# EAGLE library part LTC3899 (library kiks-ic)
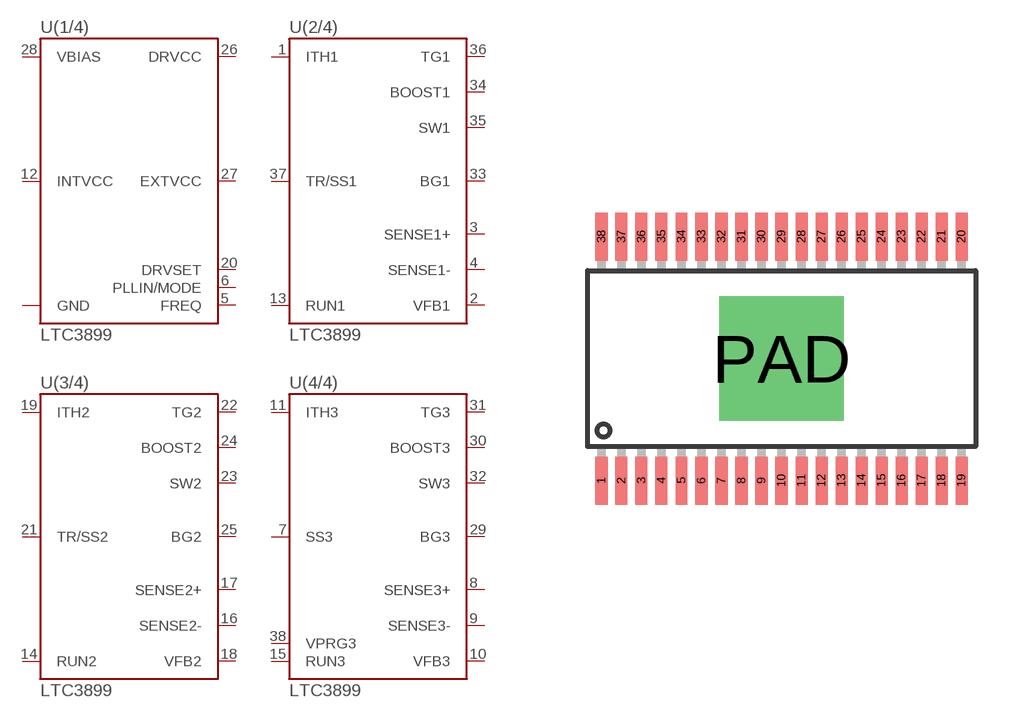
[diagram p3: symbol with the pads of TSSOP38-PAD; footprint TSSOP38-PAD]

Designator prefix U; gates (1/4)=LTC3899_1 (2/4)=LTC3899_2 (3/4)=LTC3899_3 (4/4)=LTC3899_4

## LTC3899  [TSSOP38-PAD]
1  (2/4):ITH1
2  (2/4):VFB1  in
3  (2/4):SENSE1+  in
4  (2/4):SENSE1-  in
5  (1/4):FREQ  in
6  (1/4):PLLIN/MODE  in
7  (4/4):SS3
8  (4/4):SENSE3+  in
9  (4/4):SENSE3-  in
10  (4/4):VFB3  in
11  (4/4):ITH3
12  (1/4):INTVCC  in
13  (2/4):RUN1  in
14  (3/4):RUN2  in
15  (4/4):RUN3  in
16  (3/4):SENSE2-  in
17  (3/4):SENSE2+  in
18  (3/4):VFB2  in
19  (3/4):ITH2
20  (1/4):DRVSET  in
21  (3/4):TR/SS2
22  (3/4):TG2  out
23  (3/4):SW2  in
24  (3/4):BOOST2
25  (3/4):BG2  out
26  (1/4):DRVCC  in
27  (1/4):EXTVCC  in
28  (1/4):VBIAS  in
29  (4/4):BG3  out
30  (4/4):BOOST3
31  (4/4):TG3  out
32  (4/4):SW3  in
33  (2/4):BG1  out
34  (2/4):BOOST1
35  (2/4):SW1  in
36  (2/4):TG1  out
37  (2/4):TR/SS1
38  (4/4):VPRG3  in
PAD  (1/4):GND  in

## Footprint TSSOP38-PAD (pad centres in mm)
smd 0.3 x 1.2: 1 -4.5,-3.05; 2 -4,-3.05; 3 -3.5,-3.05; 4 -3,-3.05; 5 -2.5,-3.05; 6 -2,-3.05; 7 -1.5,-3.05; 8 -1,-3.05; 9 -0.5,-3.05; 10 0,-3.05; 11 0.5,-3.05; 12 1,-3.05; 13 1.5,-3.05; 14 2,-3.05; 15 2.5,-3.05; 16 3,-3.05; 17 3.5,-3.05; 18 4,-3.05; 19 4.5,-3.05; 20 4.5,3.05; 21 4,3.05; 22 3.5,3.05; 23 3,3.05; 24 2.5,3.05; 25 2,3.05; 26 1.5,3.05; 27 1,3.05; 28 0.5,3.05; 29 0,3.05; 30 -0.5,3.05; 31 -1,3.05; 32 -1.5,3.05; 33 -2,3.05; 34 -2.5,3.05; 35 -3,3.05; 36 -3.5,3.05; 37 -4,3.05; 38 -4.5,3.05
drill 2.1 pad 2.7 square: PAD 0,0